# EAGLE library part LEDCLOCK-HEADER (library sibosop)
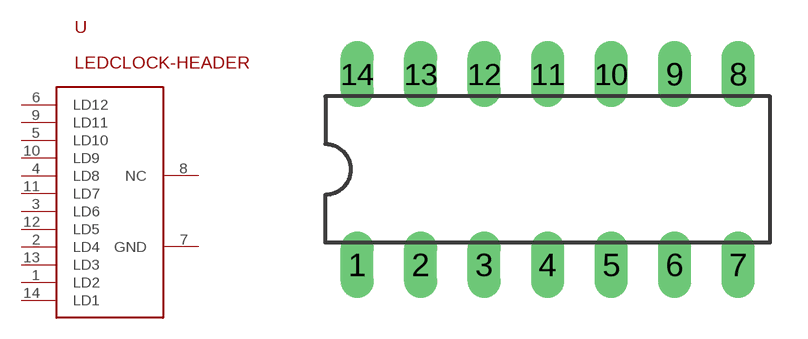
[diagram p10: symbol with the pads of DIL14; footprint DIL14]

Designator prefix U

## LEDCLOCK-HEADER  [DIL14]
1  LD2  in
2  LD4  in
3  LD6  in
4  LD8  in
5  LD10
6  LD12  in
7  GND  pwr
8  NC  nc
9  LD11  in
10  LD9  in
11  LD7  in
12  LD5  in
13  LD3  in
14  LD1  in

## Footprint DIL14 (pad centres in mm)
Dual In Line Package
drill 0.813 long: 1 -7.62,-3.81; 2 -5.08,-3.81; 3 -2.54,-3.81; 4 0,-3.81; 5 2.54,-3.81; 6 5.08,-3.81; 7 7.62,-3.81; 8 7.62,3.81; 9 5.08,3.81; 10 2.54,3.81; 11 0,3.81; 12 -2.54,3.81; 13 -5.08,3.81; 14 -7.62,3.81